# EAGLE library part INA199A1 (library modular_robotics)
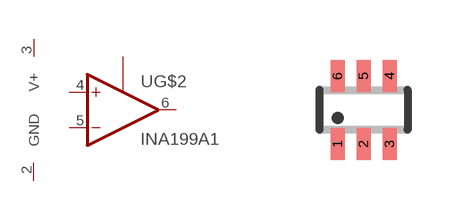
[diagram p1: symbol with the pads of SC70-6; footprint SC70-6]

Designator prefix -; gates G$1=PWR+G G$2=OPAMP

## INA199A1  [SC70-6]
1  G$2:REF
2  G$1:GND  pwr
3  G$1:V+  pwr
4  G$2:+IN  in
5  G$2:-IN  in
6  G$2:OUT  out

## Footprint SC70-6 (pad centres in mm)
SC-70 Package
smd 0.35 x 0.8: 1 -0.65,-0.85; 2 0,-0.85; 3 0.65,-0.85; 4 0.65,0.85; 5 0,0.85; 6 -0.65,0.85